# EAGLE library part DEVICE (library DamianGonzalez)
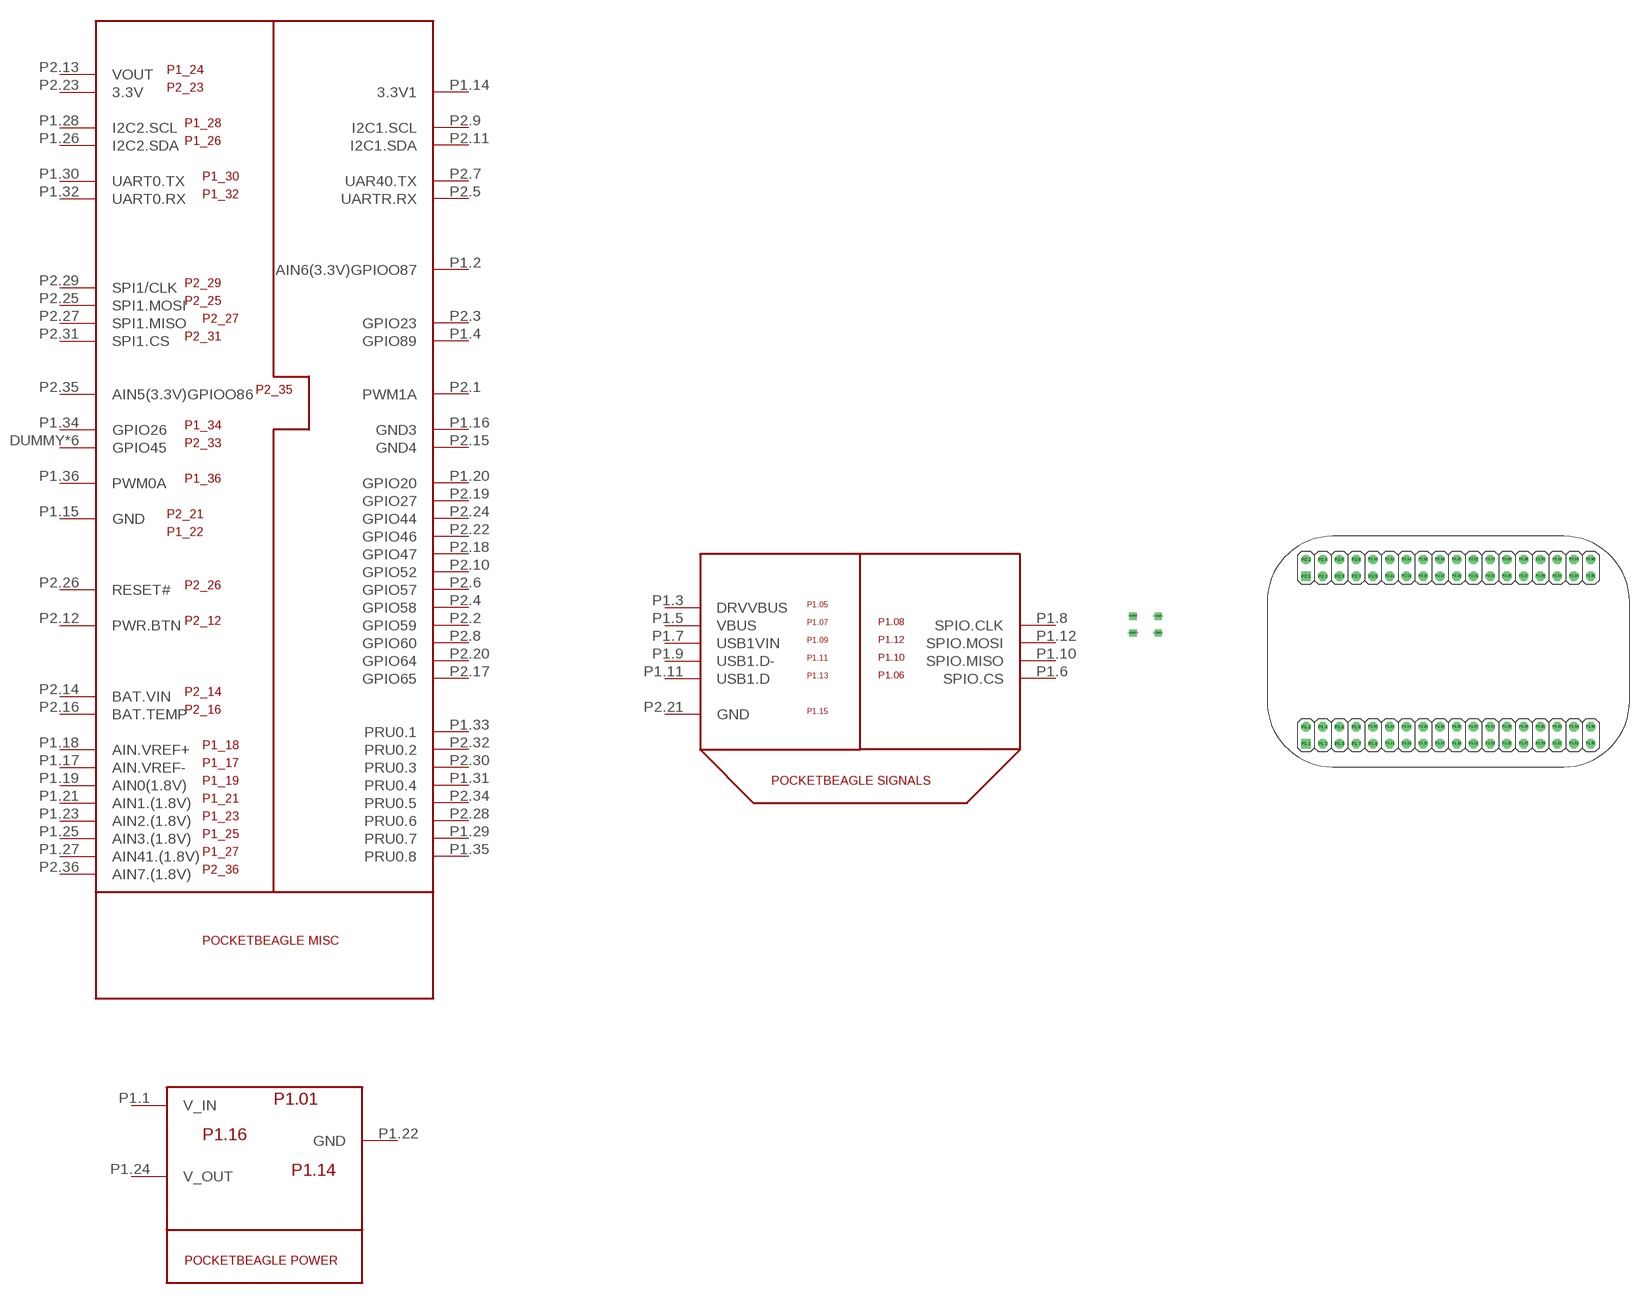
[diagram p1: symbol with the pads of POCKETBEAGLE_BRD; footprint POCKETBEAGLE_BRD]

Designator prefix U; gates G$1=POCKETBEAGLE_PWR G$3=POCKETBEAGLE_MISC G$2=POCKETBEAGL_SIGNALS

## DEVICE  [POCKETBEAGLE_BRD]
DUMMY  G$3:GPIO45
DUMMY1  G$3:GPIO45
DUMMY2  G$3:GPIO45
DUMMY3  G$3:GPIO45
P1.1  G$1:V_IN
P1.2  G$3:AIN6(3.3V)GPIOO87
P1.3  G$2:DRVVBUS
P1.4  G$3:GPIO89
P1.5  G$2:VBUS
P1.6  G$2:SPIO.CS
P1.7  G$2:USB1VIN
P1.8  G$2:SPIO.CLK
P1.9  G$2:USB1.D-
P1.10  G$2:SPIO.MISO
P1.11  G$2:USB1.D
P1.12  G$2:SPIO.MOSI
P1.13  G$3:GPIO45
P1.14  G$3:3.3V1
P1.15  G$3:GND
P1.16  G$3:GND3
P1.17  G$3:AIN.VREF-
P1.18  G$3:AIN.VREF+
P1.19  G$3:AIN0(1.8V)
P1.20  G$3:GPIO20
P1.21  G$3:AIN1.(1.8V)
P1.22  G$1:GND
P1.23  G$3:AIN2.(1.8V)
P1.24  G$1:V_OUT
P1.25  G$3:AIN3.(1.8V)
P1.26  G$3:I2C2.SDA
P1.27  G$3:AIN41.(1.8V)
P1.28  G$3:I2C2.SCL
P1.29  G$3:PRU0.7
P1.30  G$3:UART0.TX
P1.31  G$3:PRU0.4
P1.32  G$3:UART0.RX
P1.33  G$3:PRU0.1
P1.34  G$3:GPIO26
P1.35  G$3:PRU0.8
P1.36  G$3:PWM0A
P2.1  G$3:PWM1A
P2.2  G$3:GPIO59
P2.3  G$3:GPIO23
P2.4  G$3:GPIO58
P2.5  G$3:UARTR.RX
P2.6  G$3:GPIO57
P2.7  G$3:UAR40.TX
P2.8  G$3:GPIO60
P2.9  G$3:I2C1.SCL
P2.10  G$3:GPIO52
P2.11  G$3:I2C1.SDA
P2.12  G$3:PWR.BTN
P2.13  G$3:VOUT
P2.14  G$3:BAT.VIN
P2.15  G$3:GND4
P2.16  G$3:BAT.TEMP
P2.17  G$3:GPIO65
P2.18  G$3:GPIO47
P2.19  G$3:GPIO27
P2.20  G$3:GPIO64
P2.21  G$2:GND
P2.22  G$3:GPIO46
P2.23  G$3:3.3V
P2.24  G$3:GPIO44
P2.25  G$3:SPI1.MOSI
P2.26  G$3:RESET#
P2.27  G$3:SPI1.MISO
P2.28  G$3:PRU0.6
P2.29  G$3:SPI1/CLK
P2.30  G$3:PRU0.3
P2.31  G$3:SPI1.CS
P2.32  G$3:PRU0.2
P2.33  G$3:GPIO45
P2.34  G$3:PRU0.5
P2.35  G$3:AIN5(3.3V)GPIOO86
P2.36  G$3:AIN7.(1.8V)

## Footprint POCKETBEAGLE_BRD (pad centres in mm)
Package to be used when creating a new board based on the PocketBeagle form factor.
drill 0.6 square: DUMMY -20.32,22.86; DUMMY1 -16.51,22.86; DUMMY2 -16.51,20.32; DUMMY3 -20.32,20.32
drill 0.9 square: P1.1 5.91,3.53; P2.1 5.91,28.93
drill 0.9 octagon: P1.2 5.91,6.07; P1.3 8.45,3.53; P1.4 8.45,6.07; P1.5 10.99,3.53; P1.6 10.99,6.07; P1.7 13.53,3.53; P1.8 13.53,6.07; P1.9 16.07,3.53; P1.10 16.07,6.07; P1.11 18.61,3.53; P1.12 18.61,6.07; P1.13 21.15,3.53; P1.14 21.15,6.07; P1.15 23.69,3.53; P1.16 23.69,6.07; P1.17 26.23,3.53; P1.18 26.23,6.07; P1.19 28.77,3.53; P1.20 28.77,6.07; P1.21 31.31,3.53; P1.22 31.31,6.07; P1.23 33.85,3.53; P1.24 33.85,6.07; P1.25 36.39,3.53; P1.26 36.39,6.07; P1.27 38.93,3.53; P1.28 38.93,6.07; P1.29 41.47,3.53; P1.30 41.47,6.07; P1.31 44.01,3.53; P1.32 44.01,6.07; P1.33 46.55,3.53; P1.34 46.55,6.07; P1.35 49.09,3.53; P1.36 49.09,6.07; P2.2 5.91,31.47; P2.3 8.45,28.93; P2.4 8.45,31.47; P2.5 10.99,28.93; P2.6 10.99,31.47; P2.7 13.53,28.93; P2.8 13.53,31.47; P2.9 16.07,28.93; P2.10 16.07,31.47; P2.11 18.61,28.93; P2.12 18.61,31.47; P2.13 21.15,28.93; P2.14 21.15,31.47; P2.15 23.69,28.93; P2.16 23.69,31.47; P2.17 26.23,28.93; P2.18 26.23,31.47; P2.19 28.77,28.93; P2.20 28.77,31.47; P2.21 31.31,28.93; P2.22 31.31,31.47; P2.23 33.85,28.93; P2.24 33.85,31.47; P2.25 36.39,28.93; P2.26 36.39,31.47; P2.27 38.93,28.93; P2.28 38.93,31.47; P2.29 41.47,28.93; P2.30 41.47,31.47; P2.31 44.01,28.93; P2.32 44.01,31.47; P2.33 46.55,28.93; P2.34 46.55,31.47; P2.35 49.09,28.93; P2.36 49.09,31.47